# Altium footprint library Veristor.PcbLib: 3 footprints
Each footprint in its own frame and in the unit in brackets; x right, y up, seen from the top. Pads: shape width x height; smd on the part's side, far side on the other; paste and mask are expansions set on the pad; w line width, h text height; cw(c..) or ccw(c..) is an arc to the next point about the centre after c.
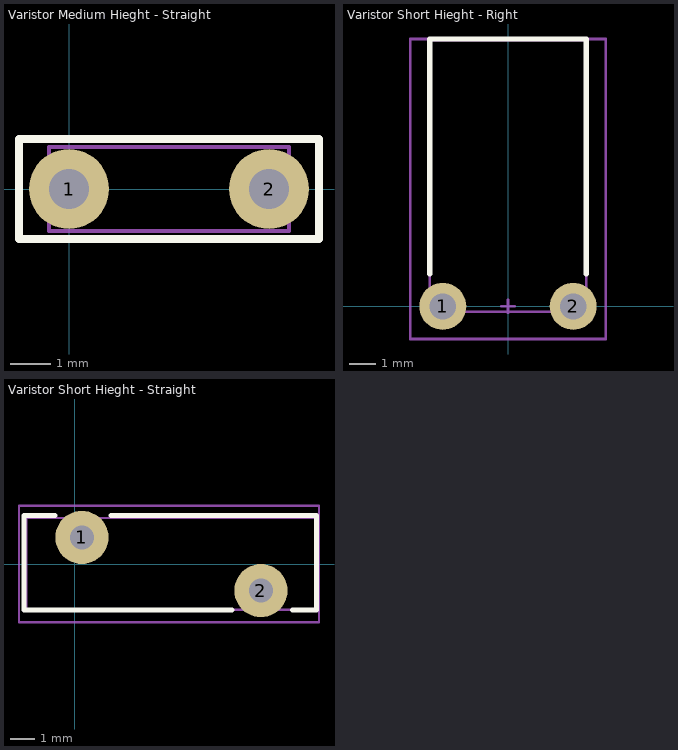
[diagram p0: the footprints below, top view; thin cyan lines are the x and y axes]

## Varistor Medium Hieght - Straight [mm] "MOV-07D431K"
pads (2):
  round 2 hole 1: 1(0,0) 2(5,0)
Top Overlay:
  lines w0.2: -1.25,-1.25 6.25,-1.25 6.25,1.25 -1.25,1.25 -1.25,-1.25
Mechanical 1:
  lines w0.1: -0.5,-1.05 5.5,-1.05 5.5,1.05 -0.5,1.05 -0.5,-1.05
Mechanical 15:
  lines w0.1: -1.25,-1.25 -1.25,1.25 6.25,1.25 6.25,-1.25 -1.25,-1.25
3D body "User Library-Disc_CAP d6x3_5_5mm.STEP": height 8.1, standoff -2.02, extent -0.5,-1.05 5.5,1.05

## Varistor Short Hieght - Right [mm] "MOV-07D431K"
pads (3):
  round 1.8 hole 1: 1(-2.5,0) 2(2.5,0)
  round 0.5 on Mech1: ""(-2.5,0.25)
Top Overlay:
  lines w0.2: -3,1.25 -3,10.25 3,10.25 3,1.25
Mechanical 1:
  lines w0.1: -3,-0.2 -3,10.2 3,10.2 3,-0.2 -3,-0.2
Mechanical 15:
  lines w0.1: -0.25,0 0.25,0 ; 0,-0.25 0,0.25 ; -3.75,-1.25 -3.75,10.25 3.75,10.25 3.75,-1.25 -3.75,-1.25
3D body "DEBB33D_90.STEP": height 4.02, standoff -1.98, extent -3,-0.2 3,10.2

## Varistor Short Hieght - Straight [mm] "B57237"
pads (2):
  round 2.2 hole 1: 1(0.3,1.1) 2(7.7,-1.1)
Top Overlay:
  lines w0.2: -0.8,2 -2.1,2 -2.1,-1.9 6.5,-1.9 ; 1.5,2 10,2 10,-1.9 9,-1.9
Mechanical 1:
  lines w0.1: -2,-1.9 -2,1.902 10,1.902 10,-1.9 -2,-1.9
Mechanical 15:
  lines w0.1: -2.3,-2.4 10.1,-2.4 10.1,2.4 -2.3,2.4 -2.3,-2.4
3D body "User Library-S10K275.STEP": height 13, standoff -2.5, extent -2,-1.9 10,1.902